# Altium footprint library WE-FLEX.PcbLib: 4 footprints
Each footprint in its own frame and in the unit in brackets; x right, y up, seen from the top. Pads: shape width x height; smd on the part's side, far side on the other; paste and mask are expansions set on the pad; w line width, h text height; cw(c..) or ccw(c..) is an arc to the next point about the centre after c.
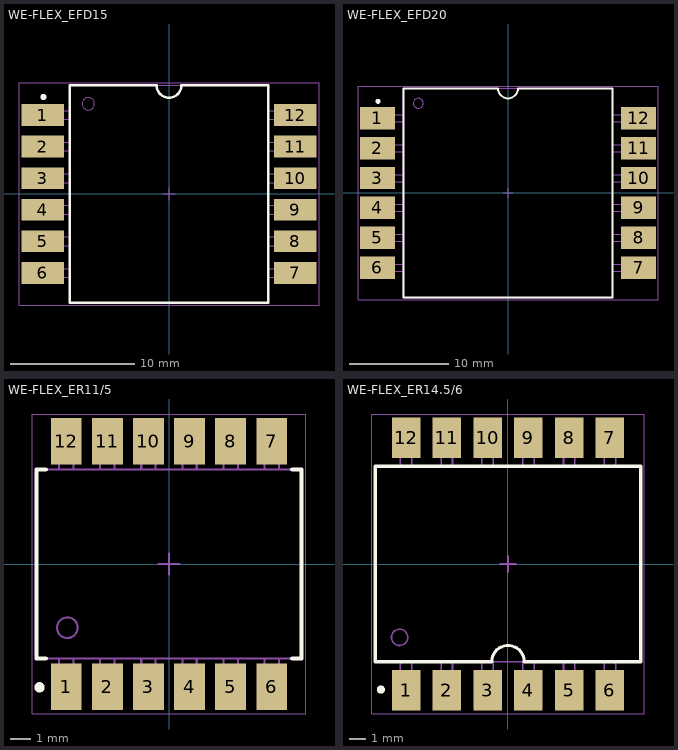
[diagram p0: the footprints below, top view; thin cyan lines are the x and y axes]

## WE-FLEX_EFD15 [mm] "Flexible Transformer for DC/DC Converter, size EFD15"
height 8.3
pads (12):
  rect 3.43x1.75 smd: 1(-10.155,6.35) 2(-10.155,3.81) 3(-10.155,1.27) 4(-10.155,-1.27) 5(-10.155,-3.81) 6(-10.155,-6.35) 7(10.155,-6.35) 8(10.155,-3.81) 9(10.155,-1.27) 10(10.155,1.27) 11(10.155,3.81) 12(10.155,6.35)
Top Overlay:
  circle w0.25: c-10.1,7.8 r0.125
  lines w0.2: -8,-8.75 8,-8.75 8,8.75 1,8.75 cw(c0,8.75) -1,8.75 -8,8.75 -8,-8.75
Top Assembly:
  circle w0.1: c-6.5,7.25 r0.5
  lines w0.1: -8,-6.7 -11.05,-6.7 -11.05,-6 -8,-6 ; -8,-4.16 -11.05,-4.16 -11.05,-3.46 -8,-3.46 ; -8,-1.62 -11.05,-1.62 -11.05,-0.92 -8,-0.92 ; -8,0.92 -11.05,0.92 -11.05,1.62 -8,1.62 ; -8,3.46 -11.05,3.46 -11.05,4.16 -8,4.16 ; -8,6 -11.05,6 -11.05,6.7 -8,6.7 ; 8,-6.7 11.05,-6.7 11.05,-6 8,-6 ; 8,-4.16 11.05,-4.16 11.05,-3.46 8,-3.46 ; 8,-1.62 11.05,-1.62 11.05,-0.92 8,-0.92 ; 8,0.92 11.05,0.92 11.05,1.62 8,1.62 ; 8,3.46 11.05,3.46 11.05,4.16 8,4.16 ; 8,6 11.05,6 11.05,6.7 8,6.7 ; -8,-8.75 8,-8.75 8,8.75 -8,8.75 -8,-8.75
Top Designator:
  text ".Designator" at -3.647,-0.357 h1
Top 3D Body:
  circle w0.1: c-6.5,7.25 r0.5
  lines w0.1: -8,-6.7 -11.05,-6.7 -11.05,-6 -8,-6 ; -8,-4.16 -11.05,-4.16 -11.05,-3.46 -8,-3.46 ; -8,-1.62 -11.05,-1.62 -11.05,-0.92 -8,-0.92 ; -8,0.92 -11.05,0.92 -11.05,1.62 -8,1.62 ; -8,3.46 -11.05,3.46 -11.05,4.16 -8,4.16 ; -8,6 -11.05,6 -11.05,6.7 -8,6.7 ; 8,-6.7 11.05,-6.7 11.05,-6 8,-6 ; 8,-4.16 11.05,-4.16 11.05,-3.46 8,-3.46 ; 8,-1.62 11.05,-1.62 11.05,-0.92 8,-0.92 ; 8,0.92 11.05,0.92 11.05,1.62 8,1.62 ; 8,3.46 11.05,3.46 11.05,4.16 8,4.16 ; 8,6 11.05,6 11.05,6.7 8,6.7 ; -8,-8.75 -8,8.75 8,8.75 8,-8.75 -8,-8.75
Top Courtyard:
  lines w0.05: -12.07,-8.95 12.07,-8.95 12.07,8.95 -12.07,8.95 -12.07,-8.95
Top Component Center:
  lines w0.1: -0.5,0 0.5,0 ; 0,-0.5 0,0.5
3D body "749196341 (rev1).stp": height 8.3, standoff 0, extent -11.05,-8.75 11.05,8.75

## WE-FLEX_EFD20 [mm] "Flexible Transformer for DC/DC Converter, size EFD20"
height 10.8
pads (12):
  rect 3.5x2.25 smd: 1(-13.1,7.5) 2(-13.1,4.5) 3(-13.1,1.5) 4(-13.1,-1.5) 5(-13.1,-4.5) 6(-13.1,-7.5) 7(13.1,-7.5) 8(13.1,-4.5) 9(13.1,-1.5) 10(13.1,1.5) 11(13.1,4.5) 12(13.1,7.5)
Top Overlay:
  circle w0.25: c-13.05,9.2 r0.125
  lines w0.2: -10.5,-10.5 -10.5,10.5 -1,10.5 ccw(c0,10.5) 1,10.5 10.5,10.5 10.5,-10.5 -10.5,-10.5
Top Assembly:
  circle w0.1: c-9,9 r0.5
  lines w0.1: -10.5,-7.85 -14.75,-7.85 -14.75,-7.15 -10.5,-7.15 ; -10.5,-4.85 -14.75,-4.85 -14.75,-4.15 -10.5,-4.15 ; -10.5,-1.85 -14.75,-1.85 -14.75,-1.15 -10.5,-1.15 ; -10.5,1.15 -14.75,1.15 -14.75,1.85 -10.5,1.85 ; -10.5,4.15 -14.75,4.15 -14.75,4.85 -10.5,4.85 ; -10.5,7.15 -14.75,7.15 -14.75,7.85 -10.5,7.85 ; 10.5,-7.85 14.75,-7.85 14.75,-7.15 10.5,-7.15 ; 10.5,-4.85 14.75,-4.85 14.75,-4.15 10.5,-4.15 ; 10.5,-1.85 14.75,-1.85 14.75,-1.15 10.5,-1.15 ; 10.5,1.15 14.75,1.15 14.75,1.85 10.5,1.85 ; 10.5,4.15 14.75,4.15 14.75,4.85 10.5,4.85 ; 10.5,7.15 14.75,7.15 14.75,7.85 10.5,7.85 ; -10.5,-10.5 -10.5,10.5 10.5,10.5 10.5,-10.5 -10.5,-10.5
Top Designator:
  text ".Designator" at -3.647,-0.357 h1
Top 3D Body:
  circle w0.1: c-9,9 r0.5
  lines w0.1: -10.5,-7.85 -14.75,-7.85 -14.75,-7.15 -10.5,-7.15 ; -10.5,-4.85 -14.75,-4.85 -14.75,-4.15 -10.5,-4.15 ; -10.5,-1.85 -14.75,-1.85 -14.75,-1.15 -10.5,-1.15 ; -10.5,1.15 -14.75,1.15 -14.75,1.85 -10.5,1.85 ; -10.5,4.15 -14.75,4.15 -14.75,4.85 -10.5,4.85 ; -10.5,7.15 -14.75,7.15 -14.75,7.85 -10.5,7.85 ; 10.5,-7.85 14.75,-7.85 14.75,-7.15 10.5,-7.15 ; 10.5,-4.85 14.75,-4.85 14.75,-4.15 10.5,-4.15 ; 10.5,-1.85 14.75,-1.85 14.75,-1.15 10.5,-1.15 ; 10.5,1.15 14.75,1.15 14.75,1.85 10.5,1.85 ; 10.5,4.15 14.75,4.15 14.75,4.85 10.5,4.85 ; 10.5,7.15 14.75,7.15 14.75,7.85 10.5,7.85 ; -10.5,-10.5 10.5,-10.5 10.5,10.5 -10.5,10.5 -10.5,-10.5
Top Courtyard:
  lines w0.05: -15.05,-10.7 -15.05,10.7 15.05,10.7 15.05,-10.7 -15.05,-10.7
Top Component Center:
  lines w0.1: -0.5,0 0.5,0 ; 0,-0.5 0,0.5
3D body "EFD 20.stp": height 10.8, standoff 0, extent -14.75,-10.5 14.75,10.5

## WE-FLEX_ER11/5 [mm] "Flexible Transformer for DC/DC Converter, size ER11/5"
height 6.2
pads (12):
  rect 1.5x2.25 smd: 1(-5,-5.975) 2(-3,-5.975) 3(-1,-5.975) 4(1,-5.975) 5(3,-5.975) 6(5,-5.975) 7(5,5.975) 8(3,5.975) 9(1,5.975) 10(-1,5.975) 11(-3,5.975) 12(-5,5.975)
Top Overlay:
  circle w0.25: c-6.3,-6 r0.125
  lines w0.2: -6,-4.6 -6.45,-4.6 -6.45,4.6 -6,4.6 ; 6,-4.6 6.45,-4.6 6.45,4.6 6,4.6
Top Assembly:
  circle w0.1: c-4.95,-3.1 r0.5
  lines w0.1: -5.35,-4.6 -5.35,-6.5 -4.65,-6.5 -4.65,-4.6 ; -5.35,4.6 -5.35,6.5 -4.65,6.5 -4.65,4.6 ; -3.35,-4.6 -3.35,-6.5 -2.65,-6.5 -2.65,-4.6 ; -3.35,4.6 -3.35,6.5 -2.65,6.5 -2.65,4.6 ; -1.35,-4.6 -1.35,-6.5 -0.65,-6.5 -0.65,-4.6 ; -1.35,4.6 -1.35,6.5 -0.65,6.5 -0.65,4.6 ; 0.65,-4.6 0.65,-6.5 1.35,-6.5 1.35,-4.6 ; 0.65,4.6 0.65,6.5 1.35,6.5 1.35,4.6 ; 2.65,-4.6 2.65,-6.5 3.35,-6.5 3.35,-4.6 ; 2.65,4.6 2.65,6.5 3.35,6.5 3.35,4.6 ; 4.65,-4.6 4.65,-6.5 5.35,-6.5 5.35,-4.6 ; 4.65,4.6 4.65,6.5 5.35,6.5 5.35,4.6 ; -6.45,-4.6 -6.45,4.6 6.45,4.6 6.45,-4.6 -6.45,-4.6
Top Designator:
  text ".Designator" at -3.647,-0.357 h1
Top 3D Body:
  circle w0.1: c-4.95,-3.1 r0.5
  lines w0.1: -5.35,-4.6 -5.35,-6.5 -4.65,-6.5 -4.65,-4.6 ; -5.35,4.6 -5.35,6.5 -4.65,6.5 -4.65,4.6 ; -3.35,-4.6 -3.35,-6.5 -2.65,-6.5 -2.65,-4.6 ; -3.35,4.6 -3.35,6.5 -2.65,6.5 -2.65,4.6 ; -1.35,-4.6 -1.35,-6.5 -0.65,-6.5 -0.65,-4.6 ; -1.35,4.6 -1.35,6.5 -0.65,6.5 -0.65,4.6 ; 0.65,-4.6 0.65,-6.5 1.35,-6.5 1.35,-4.6 ; 0.65,4.6 0.65,6.5 1.35,6.5 1.35,4.6 ; 2.65,-4.6 2.65,-6.5 3.35,-6.5 3.35,-4.6 ; 2.65,4.6 2.65,6.5 3.35,6.5 3.35,4.6 ; 4.65,-4.6 4.65,-6.5 5.35,-6.5 5.35,-4.6 ; 4.65,4.6 4.65,6.5 5.35,6.5 5.35,4.6 ; -6.45,-4.6 6.45,-4.6 6.45,4.6 -6.45,4.6 -6.45,-4.6
Top Courtyard:
  lines w0.05: -6.65,-7.3 -6.65,7.3 6.65,7.3 6.65,-7.3 -6.65,-7.3
Top Component Center:
  lines w0.1: -0.5,0 0.5,0 ; 0,-0.5 0,0.5
3D body "ER 11_5.stp": height 6.2, standoff 0, extent -6.45,-6.5 6.45,6.5

## WE-FLEX_ER14.5/6 [mm] "Flexible Transformer for DC/DC Converter, size ER14.5/6"
height 7.4
pads (12):
  rect 1.75x2.5 smd: 1(-6.25,-7.75) 2(-3.75,-7.75) 3(-1.25,-7.75) 4(1.25,-7.75) 5(3.75,-7.75) 6(6.25,-7.75) 7(6.25,7.75) 8(3.75,7.75) 9(1.25,7.75) 10(-1.25,7.75) 11(-3.75,7.75) 12(-6.25,7.75)
Top Overlay:
  circle w0.25: c-7.8,-7.7 r0.125
  lines w0.2: -8.15,-6 -8.15,6 8.15,6 8.15,-6 1,-6 ccw(c0,-6) -1,-6 -8.15,-6
Top Assembly:
  circle w0.1: c-6.65,-4.5 r0.5
  lines w0.1: -6.6,-6 -6.6,-8.4 -5.9,-8.4 -5.9,-6 ; -6.6,6 -6.6,8.4 -5.9,8.4 -5.9,6 ; -4.1,-6 -4.1,-8.4 -3.4,-8.4 -3.4,-6 ; -4.1,6 -4.1,8.4 -3.4,8.4 -3.4,6 ; -1.6,-6 -1.6,-8.4 -0.9,-8.4 -0.9,-6 ; -1.6,6 -1.6,8.4 -0.9,8.4 -0.9,6 ; 0.9,-6 0.9,-8.4 1.6,-8.4 1.6,-6 ; 0.9,6 0.9,8.4 1.6,8.4 1.6,6 ; 3.4,-6 3.4,-8.4 4.1,-8.4 4.1,-6 ; 3.4,6 3.4,8.4 4.1,8.4 4.1,6 ; 5.9,-6 5.9,-8.4 6.6,-8.4 6.6,-6 ; 5.9,6 5.9,8.4 6.6,8.4 6.6,6 ; -8.15,-6 -8.15,6 8.15,6 8.15,-6 -8.15,-6
Top Designator:
  text ".Designator" at -3.647,-0.357 h1
Top 3D Body:
  circle w0.1: c-6.65,-4.5 r0.5
  lines w0.1: -6.6,-6 -6.6,-8.4 -5.9,-8.4 -5.9,-6 ; -6.6,6 -6.6,8.4 -5.9,8.4 -5.9,6 ; -4.1,-6 -4.1,-8.4 -3.4,-8.4 -3.4,-6 ; -4.1,6 -4.1,8.4 -3.4,8.4 -3.4,6 ; -1.6,-6 -1.6,-8.4 -0.9,-8.4 -0.9,-6 ; -1.6,6 -1.6,8.4 -0.9,8.4 -0.9,6 ; 0.9,-6 0.9,-8.4 1.6,-8.4 1.6,-6 ; 0.9,6 0.9,8.4 1.6,8.4 1.6,6 ; 3.4,-6 3.4,-8.4 4.1,-8.4 4.1,-6 ; 3.4,6 3.4,8.4 4.1,8.4 4.1,6 ; 5.9,-6 5.9,-8.4 6.6,-8.4 6.6,-6 ; 5.9,6 5.9,8.4 6.6,8.4 6.6,6 ; -8.15,-6 8.15,-6 8.15,6 -8.15,6 -8.15,-6
Top Courtyard:
  lines w0.05: -8.35,-9.2 -8.35,9.2 8.35,9.2 8.35,-9.2 -8.35,-9.2
Top Component Center:
  lines w0.1: -0.5,0 0.5,0 ; 0,-0.5 0,0.5
3D body "ER 14.5_6.stp": height 7.4, standoff 0, extent -8.15,-8.4 8.15,8.4